# Altium footprint library Capacitors.PcbLib: 12 footprints
Each footprint in its own frame and in the unit in brackets; x right, y up, seen from the top. Pads: shape width x height; smd on the part's side, far side on the other; paste and mask are expansions set on the pad; w line width, h text height; cw(c..) or ccw(c..) is an arc to the next point about the centre after c.
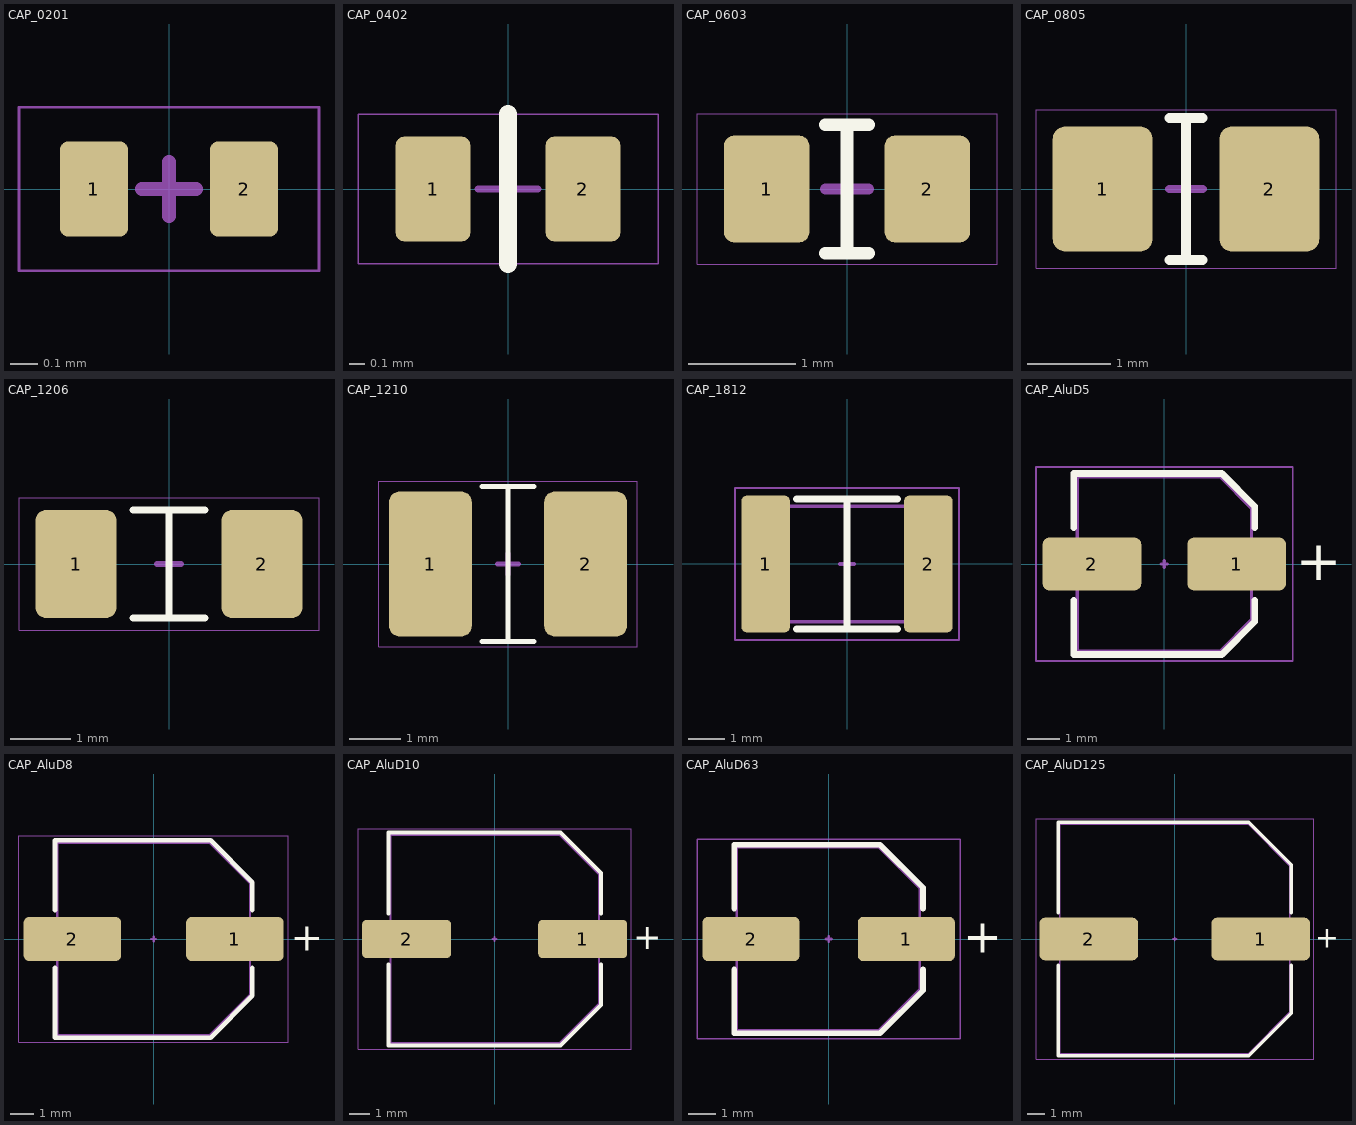
[diagram p0: the footprints below, top view; thin cyan lines are the x and y axes]

## CAP_0201 [mm]
height 0.45
pads (2):
  rrect25% 0.25x0.35 smd: 1(-0.275,0) 2(0.275,0)
Top Component Center:
  lines w0.05: -0.1,0 0,0 ; 0,-0.1 0,0 ; 0,0.1 0,0 ; 0.1,0 0,0
Top Designator:
  text ".Designator" at -2.499,-0.167 h0.5
Top Courtyard (Mech15):
  lines w0.01: -0.55,-0.3 0.55,-0.3 0.55,0.3 -0.55,0.3 -0.55,-0.3
3D body "CAP_0201 v0.step": height 0.3, standoff 0, extent -0.3,-0.15 0.3,0.15

## CAP_0402 [mm]
height 0.8
pads (2):
  rrect25% 0.5x0.7 smd: 1(-0.5,0) 2(0.5,0)
Top Overlay:
  lines w0.12: 0,-0.5 0,0.5
Top Component Center:
  lines w0.05: -0.2,0 0,0 ; 0,-0.2 0,0 ; 0,0.2 0,0 ; 0.2,0 0,0
Top Designator:
  text ".Designator" at -2.499,-0.167 h0.5
Top Courtyard (Mech15):
  lines w0.01: -1,-0.5 0,-0.5 1,-0.5 1,0.5 0,0.5 -1,0.5 -1,-0.5
3D body "CAPC-0402-T0.55-BN.stp": height 0.55, standoff 0, extent -0.501,-0.297 0.549,0.253

## CAP_0603 [mm]
height 0.8
pads (2):
  rrect25% 0.8x1 smd: 1(-0.75,0) 2(0.75,0)
Top Overlay:
  lines w0.12: -0.2,-0.6 0,-0.6 ; -0.2,0.6 0,0.6 ; 0.2,-0.6 0,-0.6 ; 0.2,0.6 0,0.6 ; 0,-0.6 0,0.6
Top Component Center:
  lines w0.1: -0.2,0 0,0 ; 0,-0.2 0,0 ; 0,0.2 0,0 ; 0.2,0 0,0
Top Designator:
  text ".Designator" at -4.998,-0.333 h1
Top Courtyard (Mech15):
  lines w0.01: -1.4,-0.7 0,-0.7 1.4,-0.7 1.4,0.7 0,0.7 -1.4,0.7 -1.4,-0.7
3D body "CAPC-0603-T0.9-BN.stp": height 0.9, standoff 0, extent -0.854,-0.427 0.846,0.473

## CAP_0805 [mm]
pads (2):
  rrect25% 1.2x1.5 smd: 1(-1,0) 2(1,0)
Top Overlay:
  lines w0.12: -0.2,-0.85 0,-0.85 ; -0.2,0.85 0,0.85 ; 0.2,-0.85 0,-0.85 ; 0.2,0.85 0,0.85 ; 0,-0.85 0,0.85
Top Component Center:
  lines w0.1: -0.2,0 0,0 ; 0,-0.2 0,0 ; 0,0.2 0,0 ; 0.2,0 0,0
Top Designator:
  text ".Designator" at -7.618,-0.508 h1.52
Top Courtyard (Mech15):
  lines w0.01: 0,-0.95 -1.8,-0.95 -1.8,0.95 0,0.95 1.8,0.95 1.8,-0.95 ; 0,-0.95 1.8,-0.95 ; 0,-0.95 1.8,-0.95
3D body "CAPC-0805-T0.95-BN.stp": height 0.95, standoff 0, extent -1.05,-0.675 1.05,0.675

## CAP_1206 [mm]
pads (2):
  rrect25% 1.35x1.8 smd: 1(-1.55,0) 2(1.55,0)
Top Overlay:
  lines w0.12: -0.6,-0.9 0,-0.9 ; -0.6,0.9 0,0.9 ; 0.6,-0.9 0,-0.9 ; 0.6,0.9 0,0.9 ; 0,-0.9 0,0.9
Top Component Center:
  lines w0.1: -0.2,0 0,0 ; 0,-0.2 0,0 ; 0,0.2 0,0 ; 0.2,0 0,0
Top Designator:
  text ".Designator" at -7.618,-0.508 h1.52
Top Courtyard (Mech15):
  lines w0.01: -2.5,-1.1 0,-1.1 2.5,-1.1 2.5,1.1 0,1.1 -2.5,1.1 -2.5,-1.1
3D body "CAPC-1206-T1.0-BN.stp": height 1, standoff 0, extent -1.675,-0.875 1.675,0.875

## CAP_1210 [mm]
height 1.35
pads (2):
  rrect25% 1.6x2.8 smd: 1(-1.5,0) 2(1.5,0)
Top Overlay:
  lines w0.1: -0.5,-1.5 0,-1.5 ; -0.5,1.5 0,1.5 ; 0.5,-1.5 0,-1.5 ; 0.5,1.5 0,1.5 ; 0,-1.5 0,1.5
Top Component Center:
  lines w0.1: -0.2,0 0,0 ; 0,-0.2 0,0 ; 0,0.2 0,0 ; 0.2,0 0,0
Top Designator:
  text ".Designator" at -7.618,-0.508 h1.52
Top Courtyard (Mech15):
  lines w0.01: -2.5,-1.6 -2.5,1.6 0,1.6 2.5,1.6 2.5,-1.6 -2.5,-1.6
3D body "CAPC-1210-T1.45-BN.stp": height 1.45, standoff 0, extent -1.75,-1.35 1.75,1.35

## CAP_1812 [mm]
pads (2):
  rrect25% 1.35x3.8 smd: 1(-2.25,0) 2(2.25,0)
Top Overlay:
  lines w0.2: -1.4,-1.8 1.4,-1.8 ; -1.4,1.8 1.4,1.8 ; 0,-1.8 0,1.8
Top Component Center:
  lines w0.1: -0.2,0 0,0 ; 0,-0.2 0,0 ; 0,0.2 0,0 ; 0.2,0 0,0
Top Assembly:
  lines w0.1: -2.2,-1.6 -2.2,1.6 2.2,1.6 2.2,-1.6 -2.2,-1.6
Top Designator:
  text ".Designator" at -7.618,-0.508 h1.52
Top Courtyard (Mech15):
  lines w0.05: -3.1,-2.1 3.1,-2.1 3.1,2.1 -3.1,2.1 -3.1,-2.1
3D body "Ceramic_Capacitor_1812_h63mil.step": height 1.61, standoff 0.01, extent -2.25,-1.6 2.25,1.6

## CAP_AluD5 [mm]
pads (2):
  rrect25% 3x1.6 smd: 1(2.2,0) 2(-2.2,0)
Top Overlay:
  lines w0.2: -2.75,-1.1 -2.75,-2.75 1.75,-2.75 2.75,-1.75 2.75,-1.1 ; -2.75,1.1 -2.75,2.75 1.75,2.75 2.75,1.75 2.75,1.1
  text "+" at 4,-0.5 h1.22
Top Component Center:
  lines w0.1: -0.1,0 0.1,0 ; 0,-0.1 0,0.1
Top Assembly:
  lines w0.1: -2.65,-2.65 1.7,-2.65 2.65,-1.7 2.65,1.7 1.7,2.65 -2.65,2.65 -2.65,-2.65
Top Designator:
  text ".Designator" at -6.981,-0.508 h1.52
Top Courtyard (Mech15):
  lines w0.05: -3.9,-2.95 -3.9,2.95 3.9,2.95 3.9,-2.95 -3.9,-2.95
3D body "5x5.5x1.4.stp": height 5.5, standoff 0, extent -3,-2.65 3,2.65

## CAP_AluD8 [mm]
pads (2):
  rrect25% 4.2x1.9 smd: 1(3.5,0) 2(-3.5,0)
Top Overlay:
  lines w0.2: -4.25,-1.25 -4.25,-4.25 2.45,-4.25 4.25,-2.45 4.25,-1.25 ; -4.25,1.25 -4.25,4.25 2.45,4.25 4.25,2.45 4.25,1.25
  text "+" at 5.9,-0.5 h1.22
Top Component Center:
  lines w0.1: -0.1,0 0,0 ; 0,-0.1 0,0 ; 0,0.1 0,0 ; 0.1,0 0,0
Top Assembly:
  lines w0.1: -4.15,-4.15 2.4,-4.15 4.15,-2.4 4.15,2.4 2.4,4.15 -4.15,4.15 -4.15,-4.15
Top Designator:
  text ".Designator" at -6.981,-0.508 h1.52
Top Courtyard (Mech15):
  lines w0.05: -5.8,-4.45 -5.8,4.45 5.8,4.45 5.8,-4.45 -5.8,-4.45
3D body "8x10.5x3.1.stp": height 10.5, standoff 0, extent -4.5,-4.2 4.5,4.1

## CAP_AluD10 [mm]
pads (2):
  rrect25% 4.4x1.9 smd: 1(4.35,0) 2(-4.35,0)
Top Overlay:
  lines w0.2: -5.25,-1.25 -5.25,-5.25 3.25,-5.25 5.25,-3.25 5.25,-1.25 ; -5.25,1.25 -5.25,5.25 3.25,5.25 5.25,3.25 5.25,1.25
  text "+" at 6.85,-0.5 h1.22
Top Component Center:
  lines w0.1: -0.1,0 0.1,0 ; 0,-0.1 0,0.1
Top Assembly:
  lines w0.1: -5.15,-5.15 -5.15,5.15 3.2,5.15 5.15,3.2 5.15,-3.2 3.2,-5.15 -5.15,-5.15
Top Designator:
  text ".Designator" at -6.981,-0.578 h1.52
Top Courtyard (Mech15):
  lines w0.05: -6.75,-5.45 -6.75,5.45 6.75,5.45 6.75,-5.45 -6.75,-5.45
3D body "10x10.5x4.5.stp": height 10.5, standoff 0, extent -5.437,-5.616 5.563,4.684

## CAP_AluD63 [mm]
pads (2):
  rrect25% 3.5x1.6 smd: 1(2.8,0) 2(-2.8,0)
Top Overlay:
  lines w0.2: -3.4,-1.1 -3.4,-3.4 1.85,-3.4 3.4,-1.85 3.4,-1.1 ; -3.4,1.1 -3.4,3.4 1.85,3.4 3.4,1.85 3.4,1.1
  text "+" at 4.85,-0.5 h1.22
Top Component Center:
  lines w0.1: -0.1,0 0.1,0 ; 0,-0.1 0,0.1
Top Assembly:
  lines w0.1: -3.316,-3.29 -3.316,3.31 1.809,3.31 3.284,1.835 3.284,-1.815 1.809,-3.29 -3.316,-3.29
Top Designator:
  text ".Designator" at -6.981,-0.508 h1.52
Top Courtyard (Mech15):
  lines w0.05: -4.75,-3.6 -4.75,3.6 4.75,3.6 4.75,-3.6 -4.75,-3.6
3D body "6.3x5.5x2.2.stp": height 5.5, standoff 0, extent -3.831,-3.38 3.469,3.22

## CAP_AluD125 [mm]
pads (2):
  rrect25% 5.8x2.5 smd: 1(5.05,0) 2(-5.05,0)
Top Overlay:
  lines w0.2: -6.85,-1.55 -6.85,-6.85 4.35,-6.85 6.85,-4.35 6.85,-1.55 ; -6.85,1.55 -6.85,6.85 4.35,6.85 6.85,4.35 6.85,1.55
  text "+" at 8.25,-0.5 h1.22
Top Component Center:
  lines w0.1: -0.1,0 0.1,0 ; 0,-0.1 0,0.1
Top Assembly:
  lines w0.1: -6.75,-6.75 4.3,-6.75 6.75,-4.3 6.75,4.3 4.3,6.75 -6.75,6.75 -6.75,-6.75
Top Designator:
  text ".Designator" at -6.981,-0.508 h1.52
Top Courtyard (Mech15):
  lines w0.05: -8.15,-7.05 -8.15,7.05 8.15,7.05 8.15,-7.05 -8.15,-7.05
3D body "12.5x14x4.5.stp": height 14, standoff 0, extent -7.1,-6.725 7.1,6.725